# Altium schematic symbol library 2019-10-21_13-40-53.SchLib: 2 symbols
Pins are listed as number, name and electrical type; pins without a type are passive.

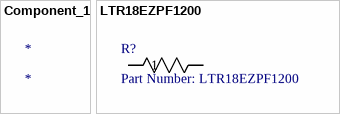
[diagram p0: symbols Component_1 to LTR18EZPF1200]

## Component_1
designator *

## LTR18EZPF1200
designator R?, comment Part Number: LTR18EZPF1200
No Description Available; Vendor: ROHM Semiconductor; Built_By: EMA_UL_Team; Manufacturer_Part_Number: LTR18EZPF1200; Copyright: Copyright (C) 2018 Accelerated Designs. All rights reserved; RefDes: RefDes; Type: DEV; Value: Value
footprint RES_R1632
pins: 1, 2